# EAGLE library part DS3231 (library gc-1000-gps custom lib)
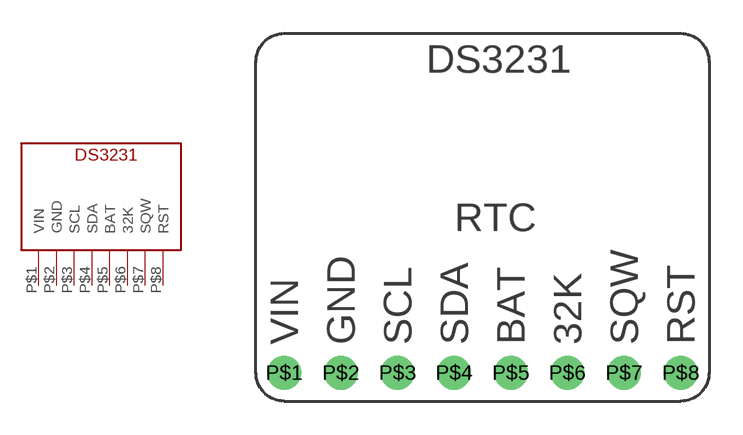
[diagram p0: symbol with the pads of DS3231; footprint DS3231]

Designator prefix -

## DS3231  [DS3231]
P$1  VIN
P$2  GND
P$3  SCL
P$4  SDA
P$5  BAT
P$6  32K
P$7  SQW
P$8  RST

## Footprint DS3231 (pad centres in mm)
drill 1: P$1 -5.08,0; P$2 -2.54,0; P$3 0,0; P$4 2.54,0; P$5 5.08,0; P$6 7.62,0; P$7 10.16,0; P$8 12.7,0